# EAGLE library part ST-LPS25H (library FaBo-Mems)
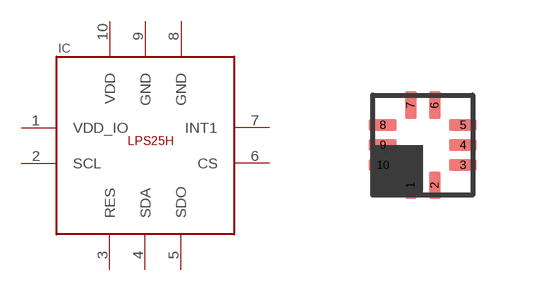
[diagram p23: symbol with the pads of ST-LPS25H; footprint ST-LPS25H]

Designator prefix IC

## ST-LPS25H  [ST-LPS25H]
1  VDD_IO
2  SCL
3  RES
4  SDA
5  SDO
6  CS
7  INT1
8  GND
9  GND
10  VDD

## Footprint ST-LPS25H (pad centres in mm)
smd 0.3 x 0.7: 1 -0.3,-1; 2 0.3,-1; 6 0.3,1; 7 -0.3,1
smd 0.7 x 0.3: 3 1,-0.5; 4 1,0; 5 1,0.5; 8 -1,0.5; 9 -1,0; 10 -1,-0.5